# EAGLE library part ST20450 (library Transputers)
ST20450 transputer derivative SGS-Thomson 32-bit processor, four links plus event channel and interrupts, no fpu. Operation clock frequency up to 40Mhz. Arto Kyyhkynen, artoky@dlc.fi
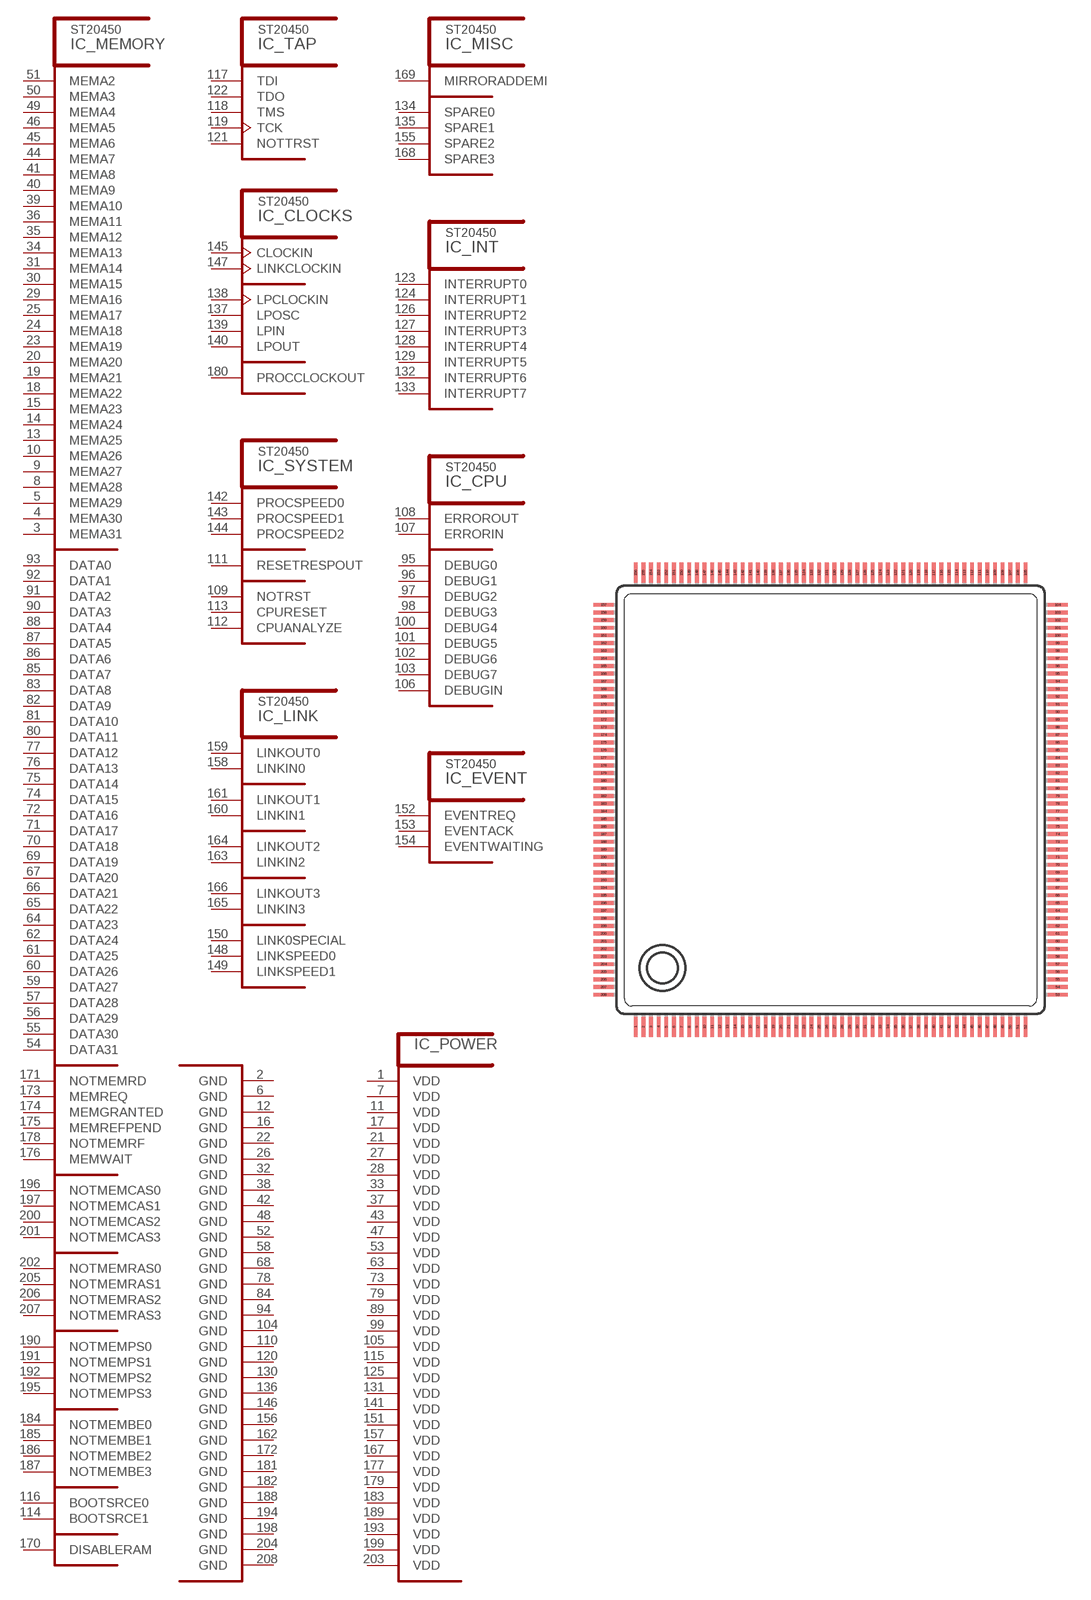
[diagram p30: symbol with the pads of PQFP208; footprint PQFP208]

Designator prefix IC; gates _EVENT=T8EVENT _MEMORY=ST20450_MEM _TAP=TAP _CLOCKS=ST20450_CLK _SYSTEM=ST20450_SYSTEM _LINK=ST20450_LINK _INT=ST20450_INT _CPU=ST20450_CPU _POWER=SR20450_SUP _MISC=ST20450_MISC

## ST20450S40X  [PQFP208]
1  _POWER:VDD  pwr
2  _POWER:GND  pwr
3  _MEMORY:MEMA31  out
4  _MEMORY:MEMA30  out
5  _MEMORY:MEMA29  out
6  _POWER:GND  pwr
7  _POWER:VDD  pwr
8  _MEMORY:MEMA28  out
9  _MEMORY:MEMA27  out
10  _MEMORY:MEMA26  out
11  _POWER:VDD  pwr
12  _POWER:GND  pwr
13  _MEMORY:MEMA25  out
14  _MEMORY:MEMA24  out
15  _MEMORY:MEMA23  out
16  _POWER:GND  pwr
17  _POWER:VDD  pwr
18  _MEMORY:MEMA22  out
19  _MEMORY:MEMA21  out
20  _MEMORY:MEMA20  out
21  _POWER:VDD  pwr
22  _POWER:GND  pwr
23  _MEMORY:MEMA19  out
24  _MEMORY:MEMA18  out
25  _MEMORY:MEMA17  out
26  _POWER:GND  pwr
27  _POWER:VDD  pwr
28  _POWER:VDD  pwr
29  _MEMORY:MEMA16  out
30  _MEMORY:MEMA15  out
31  _MEMORY:MEMA14  out
32  _POWER:GND  pwr
33  _POWER:VDD  pwr
34  _MEMORY:MEMA13  out
35  _MEMORY:MEMA12  out
36  _MEMORY:MEMA11  out
37  _POWER:VDD  pwr
38  _POWER:GND  pwr
39  _MEMORY:MEMA10  out
40  _MEMORY:MEMA9  out
41  _MEMORY:MEMA8  out
42  _POWER:GND  pwr
43  _POWER:VDD  pwr
44  _MEMORY:MEMA7  out
45  _MEMORY:MEMA6  out
46  _MEMORY:MEMA5  out
47  _POWER:VDD  pwr
48  _POWER:GND  pwr
49  _MEMORY:MEMA4  out
50  _MEMORY:MEMA3  out
51  _MEMORY:MEMA2  out
52  _POWER:GND  pwr
53  _POWER:VDD  pwr
54  _MEMORY:DATA31
55  _MEMORY:DATA30
56  _MEMORY:DATA29
57  _MEMORY:DATA28
58  _POWER:GND  pwr
59  _MEMORY:DATA27
60  _MEMORY:DATA26
61  _MEMORY:DATA25
62  _MEMORY:DATA24
63  _POWER:VDD  pwr
64  _MEMORY:DATA23
65  _MEMORY:DATA22
66  _MEMORY:DATA21
67  _MEMORY:DATA20
68  _POWER:GND  pwr
69  _MEMORY:DATA19
70  _MEMORY:DATA18
71  _MEMORY:DATA17
72  _MEMORY:DATA16
73  _POWER:VDD  pwr
74  _MEMORY:DATA15
75  _MEMORY:DATA14
76  _MEMORY:DATA13
77  _MEMORY:DATA12
78  _POWER:GND  pwr
79  _POWER:VDD  pwr
80  _MEMORY:DATA11
81  _MEMORY:DATA10
82  _MEMORY:DATA9
83  _MEMORY:DATA8
84  _POWER:GND  pwr
85  _MEMORY:DATA7
86  _MEMORY:DATA6
87  _MEMORY:DATA5
88  _MEMORY:DATA4
89  _POWER:VDD  pwr
90  _MEMORY:DATA3
91  _MEMORY:DATA2
92  _MEMORY:DATA1
93  _MEMORY:DATA0
94  _POWER:GND  pwr
95  _CPU:DEBUG0  out
96  _CPU:DEBUG1  out
97  _CPU:DEBUG2  out
98  _CPU:DEBUG3  out
99  _POWER:VDD  pwr
100  _CPU:DEBUG4  out
101  _CPU:DEBUG5  out
102  _CPU:DEBUG6  out
103  _CPU:DEBUG7  out
104  _POWER:GND  pwr
105  _POWER:VDD  pwr
106  _CPU:DEBUGIN  in
107  _CPU:ERRORIN  in
108  _CPU:ERROROUT  out
109  _SYSTEM:NOTRST  in
110  _POWER:GND  pwr
111  _SYSTEM:RESETRESPOUT  out
112  _SYSTEM:CPUANALYZE  in
113  _SYSTEM:CPURESET  in
114  _MEMORY:BOOTSRCE1  in
115  _POWER:VDD  pwr
116  _MEMORY:BOOTSRCE0  in
117  _TAP:TDI  in
118  _TAP:TMS  in
119  _TAP:TCK  in
120  _POWER:GND  pwr
121  _TAP:NOTTRST  in
122  _TAP:TDO  out
123  _INT:INTERRUPT0  in
124  _INT:INTERRUPT1  in
125  _POWER:VDD  pwr
126  _INT:INTERRUPT2  in
127  _INT:INTERRUPT3  in
128  _INT:INTERRUPT4  in
129  _INT:INTERRUPT5  in
130  _POWER:GND  pwr
131  _POWER:VDD  pwr
132  _INT:INTERRUPT6  in
133  _INT:INTERRUPT7  in
134  _MISC:SPARE0  nc
135  _MISC:SPARE1  nc
136  _POWER:GND  pwr
137  _CLOCKS:LPOSC
138  _CLOCKS:LPCLOCKIN  in
139  _CLOCKS:LPIN  in
140  _CLOCKS:LPOUT  out
141  _POWER:VDD  pwr
142  _SYSTEM:PROCSPEED0  in
143  _SYSTEM:PROCSPEED1  in
144  _SYSTEM:PROCSPEED2  in
145  _CLOCKS:CLOCKIN  in
146  _POWER:GND  pwr
147  _CLOCKS:LINKCLOCKIN  in
148  _LINK:LINKSPEED0  in
149  _LINK:LINKSPEED1  in
150  _LINK:LINK0SPECIAL  in
151  _POWER:VDD  pwr
152  _EVENT:EVENTREQ  in
153  _EVENT:EVENTACK  out
154  _EVENT:EVENTWAITING  out
155  _MISC:SPARE2  nc
156  _POWER:GND  pwr
157  _POWER:VDD  pwr
158  _LINK:LINKIN0  in
159  _LINK:LINKOUT0  out
160  _LINK:LINKIN1  in
161  _LINK:LINKOUT1  out
162  _POWER:GND  pwr
163  _LINK:LINKIN2  in
164  _LINK:LINKOUT2  out
165  _LINK:LINKIN3  in
166  _LINK:LINKOUT3  out
167  _POWER:VDD  pwr
168  _MISC:SPARE3  nc
169  _MISC:MIRRORADDEMI  nc
170  _MEMORY:DISABLERAM  in
171  _MEMORY:NOTMEMRD  out
172  _POWER:GND  pwr
173  _MEMORY:MEMREQ  in
174  _MEMORY:MEMGRANTED  out
175  _MEMORY:MEMREFPEND  out
176  _MEMORY:MEMWAIT  in
177  _POWER:VDD  pwr
178  _MEMORY:NOTMEMRF  out
179  _POWER:VDD  pwr
180  _CLOCKS:PROCCLOCKOUT  out
181  _POWER:GND  pwr
182  _POWER:GND  pwr
183  _POWER:VDD  pwr
184  _MEMORY:NOTMEMBE0  out
185  _MEMORY:NOTMEMBE1  out
186  _MEMORY:NOTMEMBE2  out
187  _MEMORY:NOTMEMBE3  out
188  _POWER:GND  pwr
189  _POWER:VDD  pwr
190  _MEMORY:NOTMEMPS0  out
191  _MEMORY:NOTMEMPS1  out
192  _MEMORY:NOTMEMPS2  out
193  _POWER:VDD  pwr
194  _POWER:GND  pwr
195  _MEMORY:NOTMEMPS3  out
196  _MEMORY:NOTMEMCAS0  out
197  _MEMORY:NOTMEMCAS1  out
198  _POWER:GND  pwr
199  _POWER:VDD  pwr
200  _MEMORY:NOTMEMCAS2  out
201  _MEMORY:NOTMEMCAS3  out
202  _MEMORY:NOTMEMRAS0  out
203  _POWER:VDD  pwr
204  _POWER:GND  pwr
205  _MEMORY:NOTMEMRAS1  out
206  _MEMORY:NOTMEMRAS2  out
207  _MEMORY:NOTMEMRAS3  out
208  _POWER:GND  pwr

## Footprint PQFP208 (pad centres in mm)
Plastic Quad Flat Pack ST-Microelectronics
smd 0.25 x 1.3: 1 -12.75,-14.85; 2 -12.25,-14.85; 3 -11.75,-14.85; 4 -11.25,-14.85; 5 -10.75,-14.85; 6 -10.25,-14.85; 7 -9.75,-14.85; 8 -9.25,-14.85; 9 -8.75,-14.85; 10 -8.25,-14.85; 11 -7.75,-14.85; 12 -7.25,-14.85; 13 -6.75,-14.85; 14 -6.25,-14.85; 15 -5.75,-14.85; 16 -5.25,-14.85; 17 -4.75,-14.85; 18 -4.25,-14.85; 19 -3.75,-14.85; 20 -3.25,-14.85; 21 -2.75,-14.85; 22 -2.25,-14.85; 23 -1.75,-14.85; 24 -1.25,-14.85; 25 -0.75,-14.85; 26 -0.25,-14.85; 27 0.25,-14.85; 28 0.75,-14.85; 29 1.25,-14.85; 30 1.75,-14.85; 31 2.25,-14.85; 32 2.75,-14.85; 33 3.25,-14.85; 34 3.75,-14.85; 35 4.25,-14.85; 36 4.75,-14.85; 37 5.25,-14.85; 38 5.75,-14.85; 39 6.25,-14.85; 40 6.75,-14.85; 41 7.25,-14.85; 42 7.75,-14.85; 43 8.25,-14.85; 44 8.75,-14.85; 45 9.25,-14.85; 46 9.75,-14.85; 47 10.25,-14.85; 48 10.75,-14.85; 49 11.25,-14.85; 50 11.75,-14.85; 51 12.25,-14.85; 52 12.75,-14.85; 105 12.75,14.85; 106 12.25,14.85; 107 11.75,14.85; 108 11.25,14.85; 109 10.75,14.85; 110 10.25,14.85; 111 9.75,14.85; 112 9.25,14.85; 113 8.75,14.85; 114 8.25,14.85; 115 7.75,14.85; 116 7.25,14.85; 117 6.75,14.85; 118 6.25,14.85; 119 5.75,14.85; 120 5.25,14.85; 121 4.75,14.85; 122 4.25,14.85; 123 3.75,14.85; 124 3.25,14.85; 125 2.75,14.85; 126 2.25,14.85; 127 1.75,14.85; 128 1.25,14.85; 129 0.75,14.85; 130 0.25,14.85; 131 -0.25,14.85; 132 -0.75,14.85; 133 -1.25,14.85; 134 -1.75,14.85; 135 -2.25,14.85; 136 -2.75,14.85; 137 -3.25,14.85; 138 -3.75,14.85; 139 -4.25,14.85; 140 -4.75,14.85; 141 -5.25,14.85; 142 -5.75,14.85; 143 -6.25,14.85; 144 -6.75,14.85; 145 -7.25,14.85; 146 -7.75,14.85; 147 -8.25,14.85; 148 -8.75,14.85; 149 -9.25,14.85; 150 -9.75,14.85; 151 -10.25,14.85; 152 -10.75,14.85; 153 -11.25,14.85; 154 -11.75,14.85; 155 -12.25,14.85; 156 -12.75,14.85
smd 1.3 x 0.25: 53 14.85,-12.75; 54 14.85,-12.25; 55 14.85,-11.75; 56 14.85,-11.25; 57 14.85,-10.75; 58 14.85,-10.25; 59 14.85,-9.75; 60 14.85,-9.25; 61 14.85,-8.75; 62 14.85,-8.25; 63 14.85,-7.75; 64 14.85,-7.25; 65 14.85,-6.75; 66 14.85,-6.25; 67 14.85,-5.75; 68 14.85,-5.25; 69 14.85,-4.75; 70 14.85,-4.25; 71 14.85,-3.75; 72 14.85,-3.25; 73 14.85,-2.75; 74 14.85,-2.25; 75 14.85,-1.75; 76 14.85,-1.25; 77 14.85,-0.75; 78 14.85,-0.25; 79 14.85,0.25; 80 14.85,0.75; 81 14.85,1.25; 82 14.85,1.75; 83 14.85,2.25; 84 14.85,2.75; 85 14.85,3.25; 86 14.85,3.75; 87 14.85,4.25; 88 14.85,4.75; 89 14.85,5.25; 90 14.85,5.75; 91 14.85,6.25; 92 14.85,6.75; 93 14.85,7.25; 94 14.85,7.75; 95 14.85,8.25; 96 14.85,8.75; 97 14.85,9.25; 98 14.85,9.75; 99 14.85,10.25; 100 14.85,10.75; 101 14.85,11.25; 102 14.85,11.75; 103 14.85,12.25; 104 14.85,12.75; 157 -14.85,12.75; 158 -14.85,12.25; 159 -14.85,11.75; 160 -14.85,11.25; 161 -14.85,10.75; 162 -14.85,10.25; 163 -14.85,9.75; 164 -14.85,9.25; 165 -14.85,8.75; 166 -14.85,8.25; 167 -14.85,7.75; 168 -14.85,7.25; 169 -14.85,6.75; 170 -14.85,6.25; 171 -14.85,5.75; 172 -14.85,5.25; 173 -14.85,4.75; 174 -14.85,4.25; 175 -14.85,3.75; 176 -14.85,3.25; 177 -14.85,2.75; 178 -14.85,2.25; 179 -14.85,1.75; 180 -14.85,1.25; 181 -14.85,0.75; 182 -14.85,0.25; 183 -14.85,-0.25; 184 -14.85,-0.75; 185 -14.85,-1.25; 186 -14.85,-1.75; 187 -14.85,-2.25; 188 -14.85,-2.75; 189 -14.85,-3.25; 190 -14.85,-3.75; 191 -14.85,-4.25; 192 -14.85,-4.75; 193 -14.85,-5.25; 194 -14.85,-5.75; 195 -14.85,-6.25; 196 -14.85,-6.75; 197 -14.85,-7.25; 198 -14.85,-7.75; 199 -14.85,-8.25; 200 -14.85,-8.75; 201 -14.85,-9.25; 202 -14.85,-9.75; 203 -14.85,-10.25; 204 -14.85,-10.75; 205 -14.85,-11.25; 206 -14.85,-11.75; 207 -14.85,-12.25; 208 -14.85,-12.75